# EAGLE library part EEPROM_MY_93* (library OOCD-Link_simple-04)
Serial EPROM 1 K/2 K/4 K, low voltage, Microwire
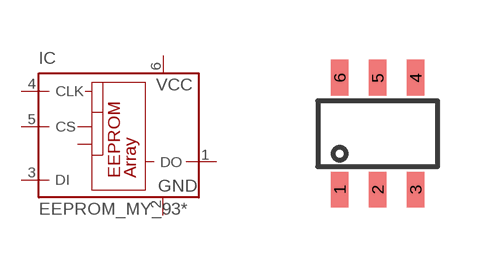
[diagram p2: symbol with the pads of EEPROM_MY_SOT-23; footprint EEPROM_MY_SOT-23]

Designator prefix IC

## EEPROM_MY_93OT  [EEPROM_MY_SOT-23]
1  DO  hiz
2  GND  pwr
3  DI  in
4  CLK  in
5  CS  in
6  VCC  pwr

## Footprint EEPROM_MY_SOT-23 (pad centres in mm)
6-Lead Plastic Small Outline Transistor (OT)
smd 0.43 x 0.9: 1 -0.95,-1.4; 2 0,-1.4; 3 0.95,-1.4; 4 0.95,1.4; 5 0,1.4; 6 -0.95,1.4